# Altium footprint library new-version.PcbLib: 241 footprints (part 10 of 16)
Each footprint in its own frame and in the unit in brackets; x right, y up, seen from the top. Pads: shape width x height; smd on the part's side, far side on the other; paste and mask are expansions set on the pad; w line width, h text height; cw(c..) or ccw(c..) is an arc to the next point about the centre after c.
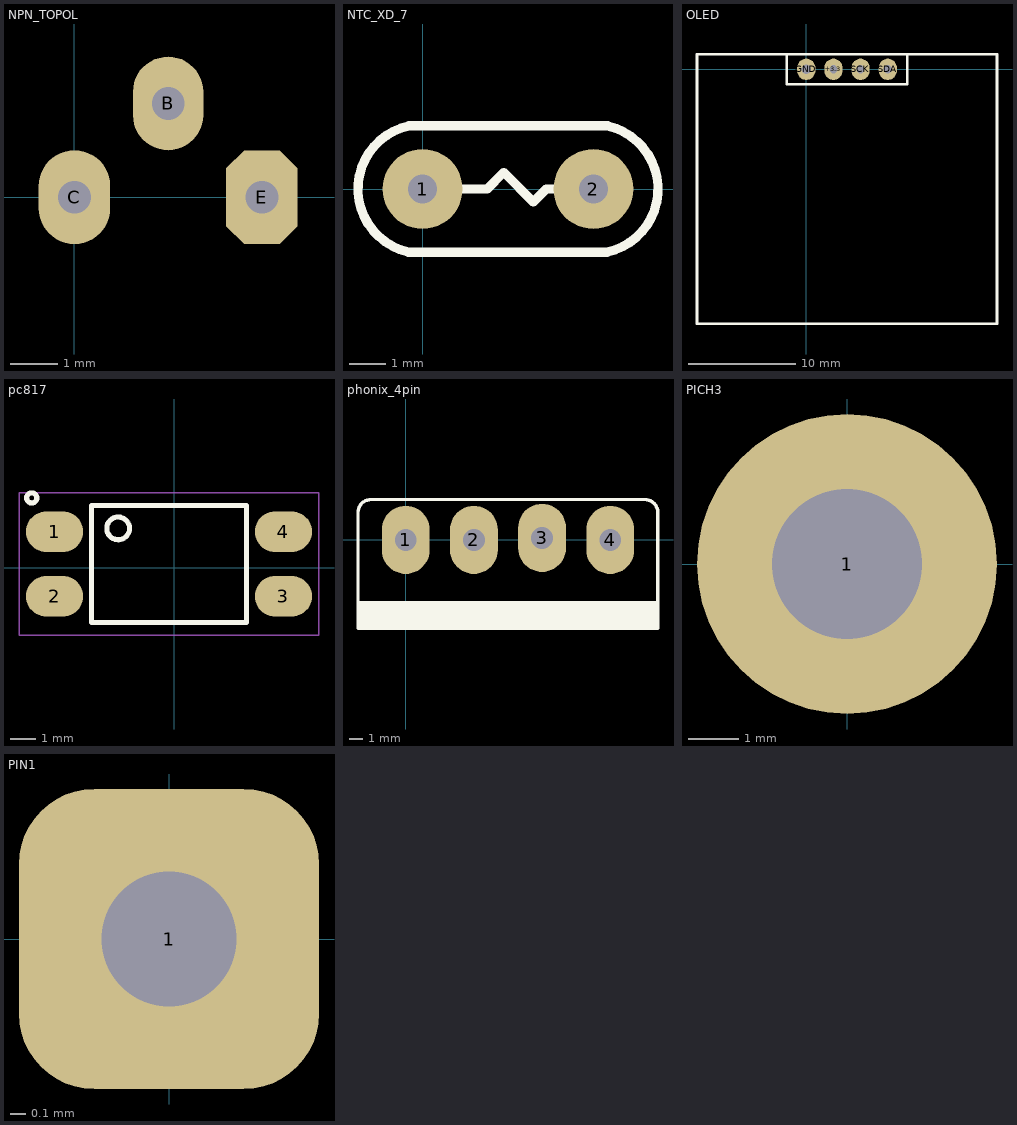
[diagram p9: the footprints below, top view; thin cyan lines are the x and y axes]

## NPN_TOPOL [mm]
pads (3):
  oval 1.5x2 hole 0.7: B(2,2)
  oval 1.524x2 hole 0.7: C(0,0)
  oct 1.524x2 hole 0.7: E(4,0)
Bottom Overlay:
  lines w0.254: -1.182,-1.425 -0.557,-1.425 5.217,-1.425 5.218,-1.426 5.218,0.175 ccw(c2.018,0.175) -1.182,0.175 -1.182,-1.425

## NTC_XD_7 [mm]
pads (2):
  round 2.2 hole 0.8: 1(0,0) 2(4.7,0)
Top Overlay:
  lines w0.254: -0.405,-1.732 cw(c0,0) -0.378,1.738 5.099,1.738 ; -0.399,-1.738 5.078,-1.738 ccw(c4.7,0) 5.105,1.732 ; 0,0 1.778,0 2.235,0.457 3.048,-0.356 3.404,0 4.7,0 5.445,0

## OLED [mm]
pads (4):
  oval 1.7x2 hole 0.762: +3.3(2.525,-0.011) SCK(5.065,-0.011) SDA(7.605,-0.011)
  oval 1.7x2 hole 0.9: GND(-0.015,-0.011)
Top Overlay:
  lines w0.254: -9.931,1.386 -10.223,1.386 ; -10.223,1.386 -10.223,-23.773 17.809,-23.773 17.809,1.386 -10.223,1.386 ; -1.825,-1.408 -1.825,1.386 9.41,1.386 9.41,-1.408 -1.825,-1.408

## pc817 [mm]
pads (4):
  oval 2.25x1.6 smd: 1(-4.699,1.409) 2(-4.699,-1.131) 3(4.301,-1.131) 4(4.301,1.409)
Top Overlay:
  circle w0.2: c-5.599,2.739 r0.2
  circle w0.2: c-2.199,1.539 r0.447
  lines w0.2: -3.249,-2.161 -3.249,2.439 2.851,2.439 2.851,-2.161 -3.249,-2.161
Mechanical 15:
  lines w0.05: -6.099,-2.661 -6.099,2.939 5.701,2.939 5.701,-2.661 -6.099,-2.661

## PCBComponent_1 [mm]

## PCBComponent_1 - duplicate [mm]

## PCBComponent_1 - duplicate1 [mm]

## PCBComponent_1 - duplicate2 [mm]

## PCBComponent_1 - duplicate3 [mm]

## PCBComponent_1 - duplicate4 [mm]

## PCBComponent_1 - duplicate5 [mm]

## PCBComponent_1 - duplicate6 [mm]

## PCBComponent_1 - duplicate8 [mm]

## phonix_4pin [mm]
pads (4):
  oval 3.5x5 hole 1.6: 1(0,0) 2(5,0) 3(10,0.144) 4(15,0)
Top Overlay:
  rectangle: -3.5,-6.5 18.5,-4.5
  lines w0.254: -3.5,-6.5 18.48,-6.5 18.48,2.02 ccw(c17.539,2.02) 17.539,2.961 -2.419,2.961 -2.539,2.961 ccw(c-2.539,2) -3.5,2 -3.5,-6.5
3D body "Phonix_4pin.stp": height 15.05, standoff -2.55, extent -2.53,-4.45 17.47,4.55

## PICH3 [mm]
pads (1):
  round 6 hole 3: 1(0,0)

## PIN1 [mm]
pads (1):
  rrect50% 2x2 hole 0.9: 1(0,0)